# Altium footprint library DG接线端子.PcbLib: 1 footprints
Each footprint in its own frame and in the unit in brackets; x right, y up, seen from the top. Pads: shape width x height; smd on the part's side, far side on the other; paste and mask are expansions set on the pad; w line width, h text height; cw(c..) or ccw(c..) is an arc to the next point about the centre after c.
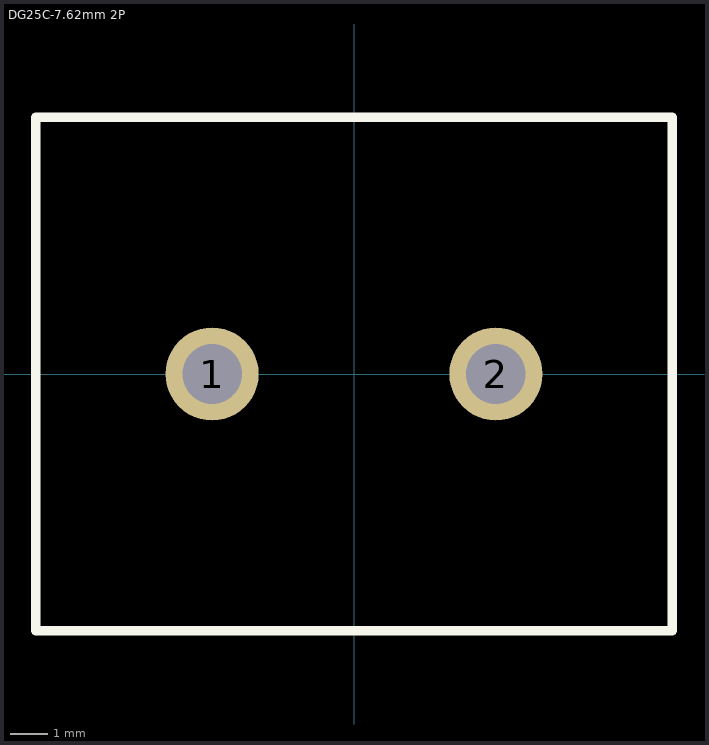
[diagram p0: the footprint, top view; thin cyan lines are the x and y axes]

## DG25C-7.62mm 2P [mm]
pads (2):
  round 2.5 hole 1.6: 1(-3.81,0) 2(3.81,0)
Top Overlay:
  lines w0.254: -8.545,-6.9 8.545,-6.9 8.545,6.9 -8.545,6.9 -8.545,-6.9
3D body "User Library-DG25C-1.X_T": height 14.8, standoff -4.79, extent -8.37,-6.484 8.37,6.75